# Altium footprint library QUTMS_PCBLibrary.PcbLib: 32 footprints (part 1 of 2)
Each footprint in its own frame and in the unit in brackets; x right, y up, seen from the top. Pads: shape width x height; smd on the part's side, far side on the other; paste and mask are expansions set on the pad; w line width, h text height; cw(c..) or ccw(c..) is an arc to the next point about the centre after c.
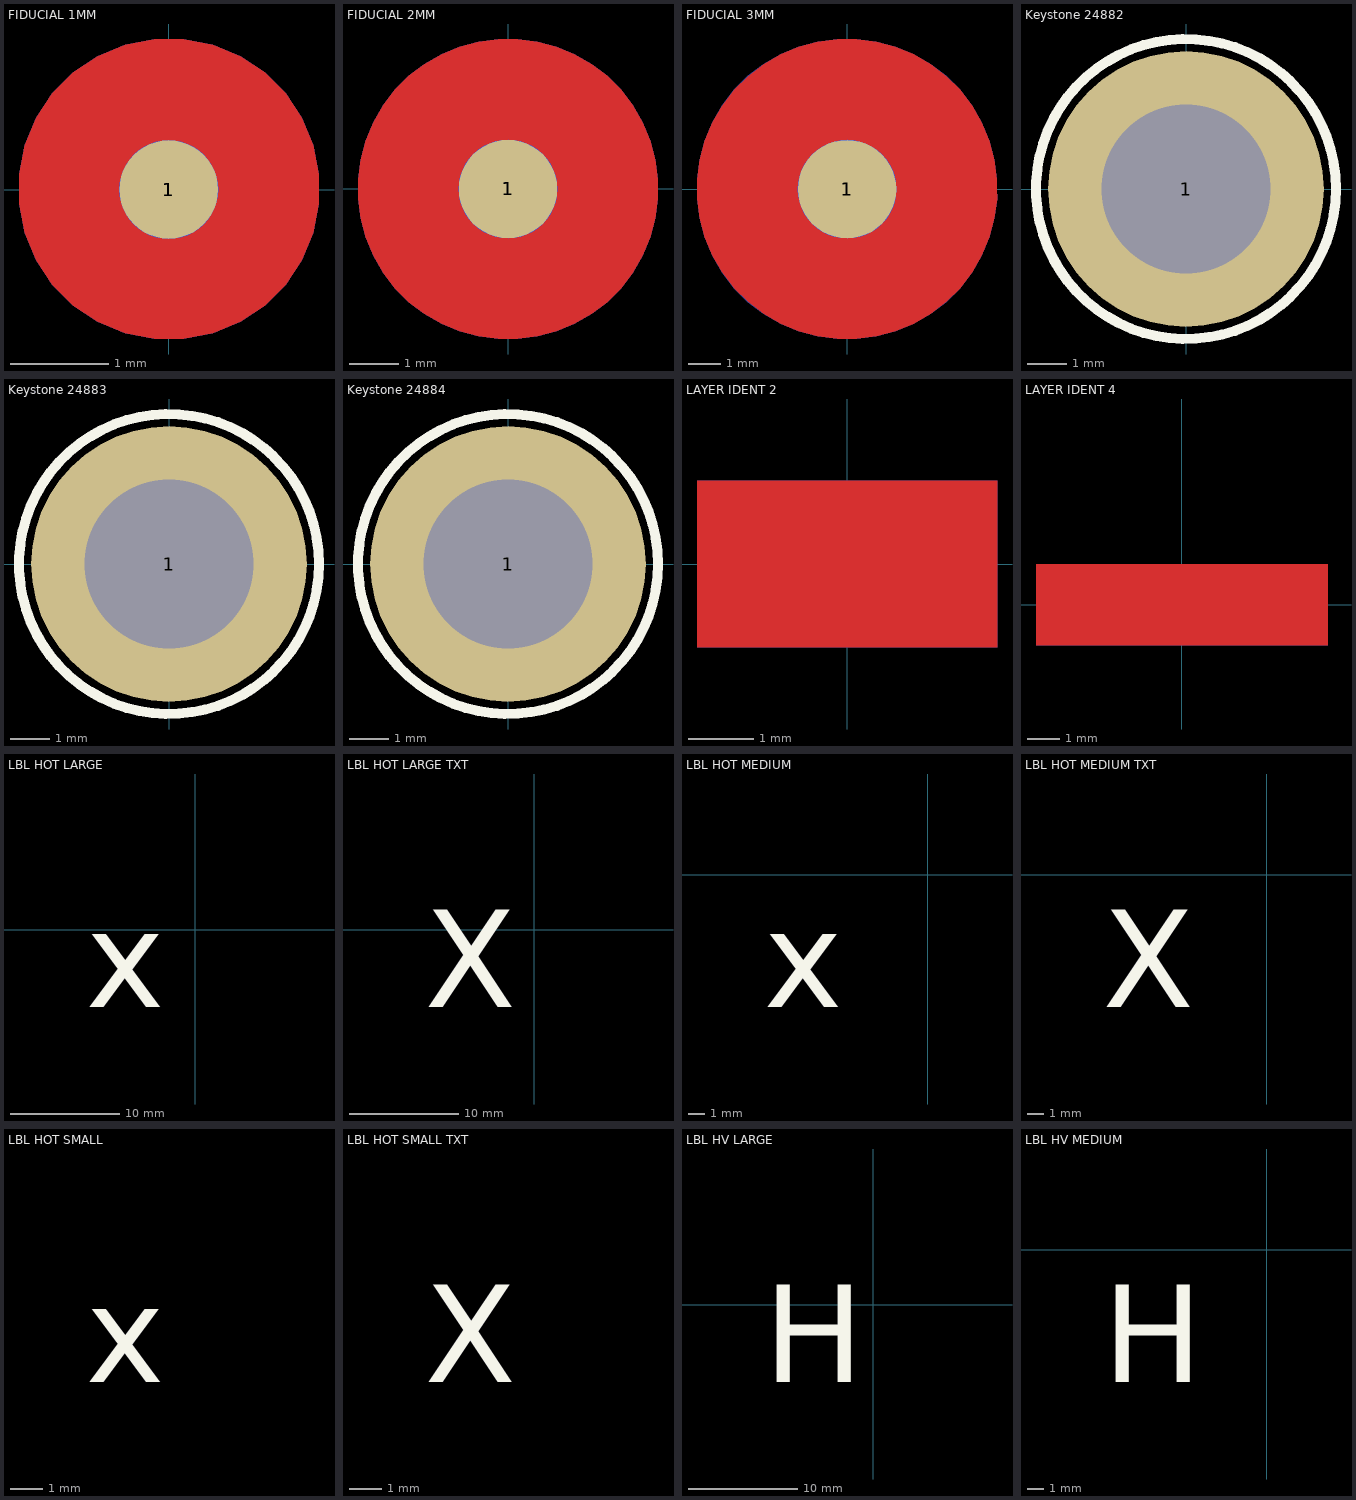
[diagram p0: the footprints below, top view; thin cyan lines are the x and y axes]

## FIDUCIAL 1MM [mm]
pads (2):
  round 1 smd mask+1: 1(0,0)
  round 1 smd far side mask+1: 1(0,0)
Top Layer:
  pour cut-out: 0.003,-1.516 -0.147,-1.516 -0.441,-1.457 -0.718,-1.342 -0.967,-1.176 -1.179,-0.964 -1.345,-0.715 -1.46,-0.438 -1.518,-0.144 -1.518,0.006 -1.518,0.155 -1.46,0.449 -1.345,0.726 -1.179,0.975 -0.967,1.187 -0.718,1.354 -0.441,1.468 -0.147,1.527 0.003,1.527 0.153,1.527 0.447,1.468 0.723,1.354 0.972,1.187 1.184,0.975 1.351,0.726 1.466,0.449 1.524,0.155 1.524,0.006 1.524,-0.144 1.466,-0.438 1.351,-0.715 1.184,-0.964 0.973,-1.176 0.723,-1.342 0.447,-1.457 0.153,-1.516
Bottom Layer:
  pour cut-out: 0.003,-1.516 -0.147,-1.516 -0.441,-1.457 -0.718,-1.342 -0.967,-1.176 -1.179,-0.964 -1.345,-0.715 -1.46,-0.438 -1.518,-0.144 -1.518,0.006 -1.518,0.155 -1.46,0.449 -1.345,0.726 -1.179,0.975 -0.967,1.187 -0.718,1.354 -0.441,1.468 -0.147,1.527 0.003,1.527 0.153,1.527 0.447,1.468 0.723,1.354 0.973,1.187 1.184,0.975 1.351,0.726 1.466,0.449 1.524,0.155 1.524,0.006 1.524,-0.144 1.466,-0.438 1.351,-0.715 1.184,-0.964 0.973,-1.176 0.723,-1.342 0.447,-1.457 0.153,-1.516

## FIDUCIAL 2MM [mm]
pads (2):
  round 2 smd far side mask+2: 1(0,0)
  round 2 smd mask+2: 1(0,0)
Top Layer:
  pour cut-out: 0,-3.048 -0.2,-3.048 -0.596,-2.996 -0.982,-2.892 -1.351,-2.74 -1.697,-2.54 -2.014,-2.297 -2.297,-2.014 -2.54,-1.697 -2.74,-1.351 -2.892,-0.982 -2.996,-0.596 -3.048,-0.2 -3.048,0 -3.048,0.2 -2.996,0.596 -2.892,0.982 -2.74,1.351 -2.54,1.697 -2.297,2.014 -2.014,2.297 -1.697,2.54 -1.351,2.74 -0.982,2.892 -0.596,2.996 -0.2,3.048 0,3.048 0.2,3.048 0.596,2.996 0.982,2.892 1.351,2.74 1.697,2.54 2.014,2.297 2.297,2.014 2.54,1.697 2.74,1.351 2.892,0.982 2.996,0.596 3.048,0.2 3.048,0 3.048,-0.2 2.996,-0.596 2.892,-0.982 2.74,-1.351 2.54,-1.697 2.297,-2.014 2.014,-2.297 1.697,-2.54 1.351,-2.74 0.982,-2.892 0.596,-2.996 0.2,-3.048
Bottom Layer:
  pour cut-out: 0,-3.048 -0.2,-3.048 -0.596,-2.996 -0.982,-2.892 -1.351,-2.74 -1.697,-2.54 -2.014,-2.297 -2.297,-2.014 -2.54,-1.697 -2.74,-1.351 -2.892,-0.982 -2.996,-0.596 -3.048,-0.2 -3.048,0 -3.048,0.2 -2.996,0.596 -2.892,0.982 -2.74,1.351 -2.54,1.697 -2.297,2.014 -2.014,2.297 -1.697,2.54 -1.351,2.74 -0.982,2.892 -0.596,2.996 -0.2,3.048 0,3.048 0.2,3.048 0.596,2.996 0.982,2.892 1.351,2.74 1.697,2.54 2.014,2.297 2.297,2.014 2.54,1.697 2.74,1.351 2.892,0.982 2.996,0.596 3.048,0.2 3.048,0 3.048,-0.2 2.996,-0.596 2.892,-0.982 2.74,-1.351 2.54,-1.697 2.297,-2.014 2.014,-2.297 1.697,-2.54 1.351,-2.74 0.982,-2.892 0.596,-2.996 0.2,-3.048

## FIDUCIAL 3MM [mm]
pads (2):
  round 3 smd mask+3: 1(0,0)
  round 3 smd far side mask+3: 1(0,0)
Top Layer:
  pour cut-out: 0,-4.566 -0.3,-4.566 -0.894,-4.488 -1.473,-4.333 -2.027,-4.104 -2.546,-3.804 -3.021,-3.439 -3.445,-3.015 -3.81,-2.54 -4.109,-2.021 -4.339,-1.467 -4.494,-0.888 -4.572,-0.294 -4.572,0.006 -4.572,0.305 -4.494,0.899 -4.339,1.478 -4.109,2.032 -3.81,2.551 -3.445,3.027 -3.021,3.45 -2.546,3.815 -2.026,4.115 -1.473,4.344 -0.894,4.499 -0.3,4.578 0,4.578 0.3,4.578 0.894,4.499 1.473,4.344 2.026,4.115 2.546,3.815 3.021,3.45 3.445,3.027 3.81,2.551 4.109,2.032 4.339,1.478 4.494,0.899 4.572,0.305 4.572,0.006 4.572,-0.294 4.494,-0.888 4.339,-1.467 4.109,-2.021 3.81,-2.54 3.445,-3.015 3.021,-3.439 2.546,-3.804 2.027,-4.104 1.473,-4.333 0.894,-4.488 0.3,-4.566
Bottom Layer:
  pour cut-out: -0.003,-4.569 -0.303,-4.569 -0.897,-4.491 -1.476,-4.336 -2.03,-4.106 -2.55,-3.806 -3.026,-3.441 -3.45,-3.017 -3.815,-2.542 -4.114,-2.022 -4.344,-1.468 -4.499,-0.889 -4.577,-0.295 -4.577,0.005 -4.577,0.305 -4.499,0.9 -4.344,1.479 -4.114,2.033 -3.814,2.552 -3.449,3.028 -3.025,3.452 -2.549,3.817 -2.03,4.117 -1.476,4.346 -0.897,4.502 -0.302,4.58 -0.002,4.58 0.298,4.58 0.892,4.502 1.471,4.346 2.025,4.117 2.545,3.817 3.02,3.452 3.444,3.028 3.809,2.552 4.109,2.033 4.339,1.479 4.494,0.9 4.572,0.305 4.572,0.006 4.572,-0.294 4.494,-0.889 4.339,-1.468 4.109,-2.022 3.809,-2.542 3.444,-3.017 3.02,-3.441 2.544,-3.806 2.025,-4.106 1.471,-4.336 0.892,-4.491 0.297,-4.569

## Keystone 24882 [mm]
pads (1):
  round 7 hole 4.3: 1(0,0)
Top Overlay:
  circle w0.254: c0,0 r3.81
Bottom Overlay:
  circle w0.254: c0,0 r3.81
3D body "keystone-PN24882.STEP": height 3.02, standoff -1.5, extent -2.781,-2.781 2.781,2.781

## Keystone 24883 [mm]
pads (1):
  round 7 hole 4.3: 1(0,0)
Top Overlay:
  circle w0.254: c0,0 r3.81
Bottom Overlay:
  circle w0.254: c0,0 r3.81
3D body "keystone-PN24883.STEP": height 4.02, standoff -1.5, extent -2.781,-2.781 2.781,2.781

## Keystone 24884 [mm]
pads (1):
  round 7 hole 4.3: 1(0,0)
Top Overlay:
  circle w0.254: c0,0 r3.81
Bottom Overlay:
  circle w0.254: c0,0 r3.81
3D body "keystone-PN24884.STEP": height 6.02, standoff -1.5, extent -2.781,-2.781 2.781,2.781

## LAYER IDENT 2 [mil]
Top Layer:
  pour cut-out: -90,50 -90,-50 90,-50 90,50
  text "1" at -60,-30 h60
Bottom Layer:
  pour cut-out: -90,50 -90,-50 90,-50 90,50
  text "2" at 30,-30 h60
Top Solder:
  rectangle: -90,-50 90,50
Bottom Solder:
  rectangle: -90,-50 90,50

## LAYER IDENT 4 [mil]
Top Layer:
  pour cut-out: 70,-5
  pour cut-out: 80,30
  pour cut-out: -110,-5
  pour cut-out: -100,30
  pour cut-out: -180,50 -180,-50 180,-50 180,50
  pour cut-out: 190,150
  text "1" at -145,-30 h60
Layer 1:
  pour cut-out: -180,50 -180,-50 180,-50 180,50
  text "2" at -65,-30 h60
Layer 2:
  pour cut-out: -180,50 -180,-50 180,-50 180,50
  text "3" at 25,-30 h60
Bottom Layer:
  pour cut-out: -180,50 -180,-50 180,-50 180,50
  text "4" at 115,-30 h60
Top Solder:
  rectangle: -180,-50 180,50
Bottom Solder:
  rectangle: -180,-50 180,50

## LBL HOT LARGE [mil]
Top Overlay:
  text "x" at -393.7,-393.7 h600

## LBL HOT LARGE TXT [mil]
Top Overlay:
  text "X" at -393.7,-393.7 h600

## LBL HOT MEDIUM [mil]
Top Overlay:
  text "x" at -393.7,-393.7 h400

## LBL HOT MEDIUM TXT [mil]
Top Overlay:
  text "X" at -393.7,-393.7 h400

## LBL HOT SMALL [mil]
Top Overlay:
  text "x" at -393.7,-393.7 h200

## LBL HOT SMALL TXT [mil]
Top Overlay:
  text "X" at -393.7,-393.7 h200

## LBL HV LARGE [mil]
Top Overlay:
  text "H" at -393.7,-393.7 h600

## LBL HV MEDIUM [mil]
Top Overlay:
  text "H" at -393.7,-393.7 h400